# Altium footprint library IS-EVB-2.PcbLib: 2 footprints
Each footprint in its own frame and in the unit in brackets; x right, y up, seen from the top. Pads: shape width x height; smd on the part's side, far side on the other; paste and mask are expansions set on the pad; w line width, h text height; cw(c..) or ccw(c..) is an arc to the next point about the centre after c.
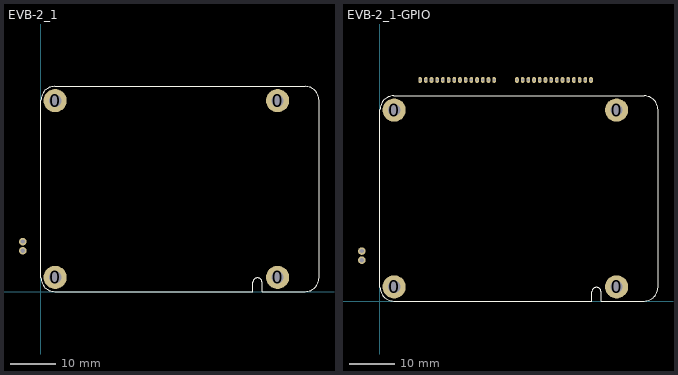
[diagram p0: the footprints below, top view; thin cyan lines are the x and y axes]

## EVB-2_1 [mm] "EVB 2 Footprint"
pads (6):
  round 5.1 hole 2.72: 0(3.1,3.1) 0(3.1,41.9) 0(51.9,3.1) 0(51.9,41.9)
  round 1.65 hole 0.9: H1-1(-4,10.95) H1-2(-4,8.95)
Top Overlay:
  lines w0.1: 0,3 ccw(c3,3) 3,0 46.5,0 46.5,2 cw(c47.5,2) 47.5,3 cw(c47.5,2) 48.5,2 48.5,0 58,0 ccw(c58,3) 61,3 61,42 ccw(c58,42) 58,45 3,45 ccw(c3,42) 0,42 0,3
3D body "EVB-2.step": height 12.61, standoff -0.02, extent -27.055,0 70.775,45

## EVB-2_1-GPIO [mm] "EVB 2.0 Footprint with GPIO headers"
pads (36):
  round 5.1 hole 2.72: 0(3.1,3.1) 0(3.1,41.9) 0(51.9,3.1) 0(51.9,41.9)
  round 1.65 hole 0.9: H1-1(-4,10.95) H1-2(-4,8.95)
  oval 0.8x1.3 / inner round 0.8 / far side oval 0.8x1.3 hole 0.5 paste-2: H7-1(30.05,48.5) H7-1(30.05,48.5) H7-2(31.3,48.5) H7-3(32.55,48.5) H7-4(33.8,48.5) H7-5(35.05,48.5) H7-6(36.3,48.5) H7-7(37.55,48.5) H7-8(38.8,48.5) H7-9(40.05,48.5) H7-10(41.3,48.5) H7-11(42.55,48.5) H7-12(43.8,48.5) H7-13(45.05,48.5) H7-14(46.3,48.5) H8-1(8.8,48.5) H8-1(8.8,48.5) H8-2(10.05,48.5) H8-3(11.3,48.5) H8-4(12.55,48.5) H8-5(13.8,48.5) H8-6(15.05,48.5) H8-7(16.3,48.5) H8-8(17.55,48.5) H8-9(18.8,48.5) H8-10(20.05,48.5) H8-11(21.3,48.5) H8-12(22.55,48.5) H8-13(23.8,48.5) H8-14(25.05,48.5)
Top Overlay:
  lines w0.1: 0,3 ccw(c3,3) 3,0 46.5,0 46.5,2 cw(c47.5,2) 47.5,3 cw(c47.5,2) 48.5,2 48.5,0 58,0 ccw(c58,3) 61,3 61,42 ccw(c58,42) 58,45 3,45 ccw(c3,42) 0,42 0,3
3D body "EVB-2.step": height 12.61, standoff -0.02, extent -27.055,0 70.775,45